# Altium schematic symbol library Exeger_schematic_library.SchLib: 86 symbols
Pins are listed as number, name and electrical type; pins without a type are passive.

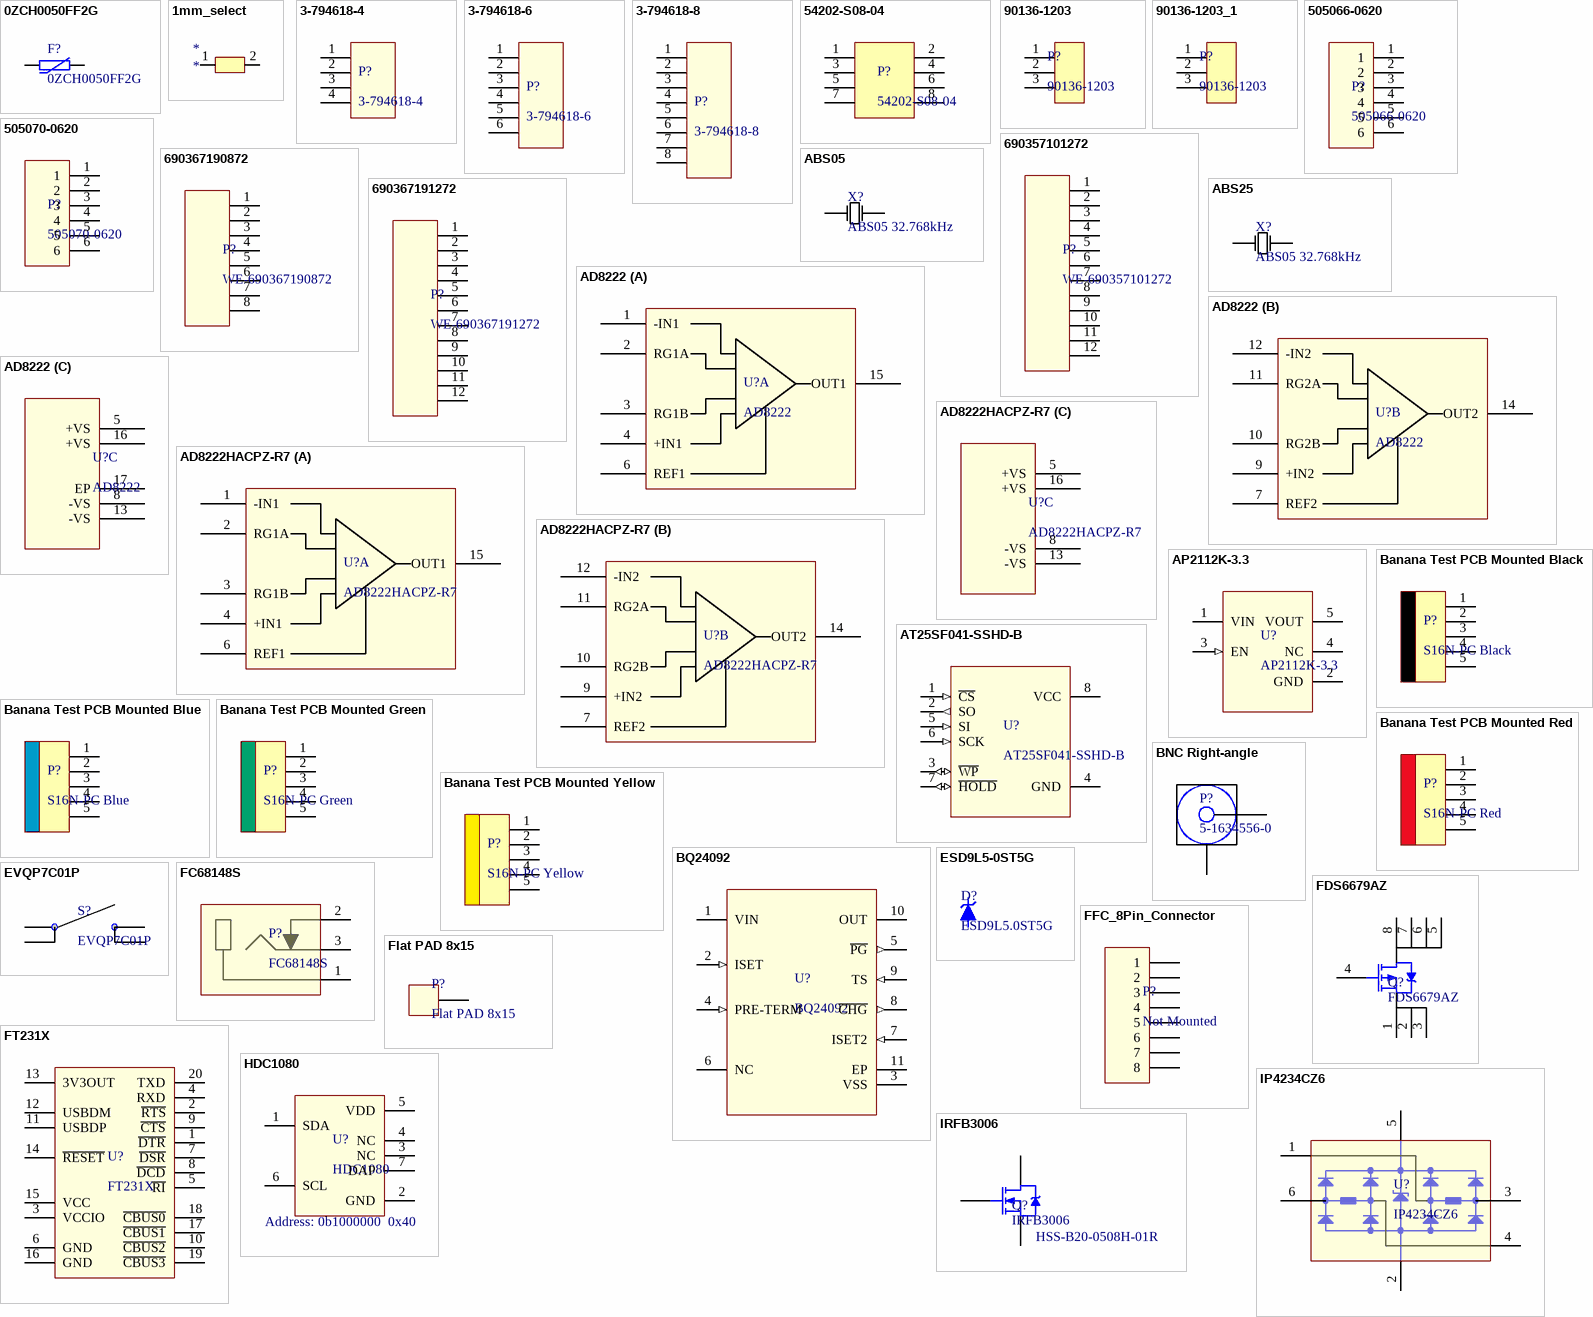
[diagram p0: symbols 0ZCH0050FF2G to IRFB3006]

## 0ZCH0050FF2G
designator F?
PTC
footprint PTC_1210 (Chip Capacitor, 2-Leads, Body 3,22x2,57mm, IPC Medium Density)
pins: 1, 2

## 1mm_select
designator *
footprint 1mm_Select
pins: 1, 2

## 3-794618-4
designator P?
Molex 3-794618-4
footprint 3-794618-4 (Molex 3-794618-4)
pins: 1, 2, 3, 4

## 3-794618-6
designator P?
Molex 3-794618-6
footprint 3-794618-6 (Molex 3-794618-6)
pins: 1, 2, 3, 4, 5, 6

## 3-794618-8
designator P?
Molex 3-794618-8
footprint 3-794618-8 (Molex 3-794618-8)
pins: 1, 2, 3, 4, 5, 6, 7, 8

## 54202-S08-04
designator P?
Header 2x4
footprint 54202-S08-04 (Header 2x4)
pins: 1, 2, 3, 4, 5, 6, 7, 8

## 90136-1203
designator P?
Header 1x3
footprint 90136-1203 (Header 1x3)
pins: 1, 2, 3

## 90136-1203_1
designator P?, comment 90136-1203
Header 1x3
footprint 90136-1203 (Header 1x3)
pins: 1, 2, 3

## 505066-0620
designator P?
Molex SlimStack Armor 505066
footprint 505066-0620 (Molex 505066-0620)
pins: 1, 2, 3, 4, 5, 6

## 505070-0620
designator P?
Molex SlimStack Armor 505070
footprint 505070-0620 (Molex 505070-0620)
pins: 1, 2, 3, 4, 5, 6

## 690357101272
designator P?, comment WE-690357101272
footprint 690357101272 (MiniModule Connectors, PCB Type, Male, THT, Vertical, 12p)
pins: 1, 2, 3, 4, 5, 6, 7, 8, 9, 10, 11, 12

## 690367190872
designator P?, comment WE-690367190872
footprint 690367190872 (WE-690367190872)
pins: 1, 2, 3, 4, 5, 6, 7, 8

## 690367191272
designator P?, comment WE-690367191272
footprint 690367191272 (WE-690367191272)
pins: 1, 2, 3, 4, 5, 6, 7, 8, 9, 10, 11, 12

## ABS05
designator X?, comment ABS05 32.768kHz
footprint ABS05
pins: 1, 2

## ABS25
designator X?, comment ABS05 32.768kHz
ABS25 32.768kHz
footprint ABS25
pins: 1, 4

## AD8222
designator U?
footprint QFN65P400X400X80_HS-17 (QFN, 16-Leads, Body 4,00x4,00mm, Pitch 0,65mm, Thermal Pad 2,50x2,50mm, IPC Medium Density)
part A pins: 1 -IN1, 2 RG1A, 3 RG1B, 4 +IN1, 6 REF1, 15 OUT1
part B pins: 7 REF2, 9 +IN2, 10 RG2B, 11 RG2A, 12 -IN2, 14 OUT2
part C pins: 5 +VS, 8 -VS, 13 -VS, 16 +VS, 17 EP

## AD8222HACPZ-R7
designator U?
footprint QFN65P4x4_line (QFN, 16-Leads, Body 4,00x4,00mm, Pitch 0,65mm, IPC Medium Density)
part A pins: 1 -IN1, 2 RG1A, 3 RG1B, 4 +IN1, 6 REF1, 15 OUT1
part B pins: 7 REF2, 9 +IN2, 10 RG2B, 11 RG2A, 12 -IN2, 14 OUT2
part C pins: 5 +VS, 8 -VS, 13 -VS, 16 +VS

## AP2112K-3.3
designator U?
LDO-3V3
footprint SOT23-5 (SOT23, 5-Leads, Body 2,90x2,45mm, Pitch 0,95mm, IPC Medium Density)
pins: 1 VIN (power), 2 GND (power), 3 EN (in), 4 NC, 5 VOUT (power)

## AT25SF041-SSHD-B
designator U?
footprint SOIC127P600X160-8N (SOIC, 8-Leads, Body 4,92x3,90mm, Pitch 1,27mm, IPC Medium Density)
pins: 1 ~{CS} (in), 2 SO (out), 3 ~{WP} (io), 4 GND (power), 5 SI (in), 6 SCK (in), 7 ~{HOLD} (io), 8 VCC (power)

## Banana Test PCB Mounted Black
designator P?, comment S16N-PC Black
footprint S16N-PC BLACK
pins: 1, 2, 3, 4, 5

## Banana Test PCB Mounted Blue
designator P?, comment S16N-PC Blue
footprint S16N-PC BLUE
pins: 1, 2, 3, 4, 5

## Banana Test PCB Mounted Green
designator P?, comment S16N-PC Green
footprint S16N-PC GREEN
pins: 1, 2, 3, 4, 5

## Banana Test PCB Mounted Red
designator P?, comment S16N-PC Red
footprint S16N-PC RED
pins: 1, 2, 3, 4, 5

## Banana Test PCB Mounted Yellow
designator P?, comment S16N-PC Yellow
footprint S16N-PC YELLOW
pins: 1, 2, 3, 4, 5

## BNC Right-angle
designator P?, comment 5-1634556-0
SMA Straight Jack
footprint 5-1634556-0 (BNC-5-1634556-0)
pins: 1, 2, 3, 4, 5

## BQ24092
designator U?
Battery Charger
footprint TSSOP50P490X110_HS-11N (TSSOP, 10-Leads, Body 3,00x3,00mm, Pitch 0,50mm, Thermal Pad 1,88x1,57mm, IPC Medium Density)
pins: 1 VIN (power), 2 ISET (in), 3 VSS (power), 4 PRE-TERM (in), 5 ~{PG} (out), 6 NC, 7 ISET2 (in), 8 ~{CHG} (out), 9 TS (in), 10 OUT (power), 11 EP (power)

## ESD9L5-0ST5G
designator D?, comment ESD9L5.0ST5G
TVS_ESD9L5-0ST5G
footprint SODFL100X40-2N (SODFL, 2-Leads, Body 0,60x1,00mm, IPC Medium Density)
pins: 1, 2

## EVQP7C01P
designator S?
EVQP7C01P Switch
footprint EVQP7C (Switch)
pins: 1, 2, 3, 4

## FC68148S
designator P?
footprint FC68148S (FC68148S 2.1mm jack barrel)
pins: 1, 2, 3, 4

## FDS6679AZ
designator Q?
Transistor, FET
footprint SOIC127P600X175-8N (SOIC, 8-Leads, Body 4,92x3,90mm, Pitch 1,27mm, IPC Medium Density)
pins: 1 S, 2 S, 3 S, 4 G, 5 D, 6 D, 7 D, 8 D

## FFC_8Pin_Connector
designator P?, comment Not Mounted
footprint FFC_edge_connector
pins: 1, 2, 3, 4, 5, 6, 7, 8

## Flat PAD 8x15
designator P?
footprint Flat PAD 8x15
pins: 1

## FT231X
designator U?
FT231X_USB-UART
footprint TSOP64P600X160-20N (TSOP, 20-Leads, Body 8,66x3,91mm, Pitch 0,64mm, IPC Medium Density)
pins: 1 ~{DTR}, 2 ~{RTS}, 3 VCCIO, 4 RXD, 5 ~{RI}, 6 GND, 7 ~{DSR}, 8 ~{DCD}, 9 ~{CTS}, 10 ~{CBUS2}, 11 USBDP, 12 USBDM, 13 3V3OUT, 14 ~{RESET}, 15 VCC, 16 GND, 17 ~{CBUS1}, 18 ~{CBUS0}, 19 ~{CBUS3}, 20 TXD

## HDC1080
designator U?  Address: 0b1000000  0x40
footprint PSON95P300X80_HS-7N (PSON, 6-Leads, Body 3,00x3,00mm, Pitch 0,95mm, Thermal Pad 2,40x1,50mm, IPC Medium Density)
footprint PSON95P300X80_HS (PSON, 6-Leads, Body 3,00x3,00mm, Pitch 0,95mm, Thermal Pad 2,40x1,50mm, IPC Medium Density)
pins: 1 SDA, 2 GND, 3 NC, 4 NC, 5 VDD, 6 SCL, 7 DAP

## IP4234CZ6
designator U?
USB Line Protection
footprint TSOP95P280X110_HS-7N (TSOP, 6-Leads, Body 2,90x1,50mm, Pitch 0,95mm, Thermal Pad 1,88x1,10mm, IPC Medium Density)
pins: 1 CH1_A, 2 GND (power), 3 CH1_B, 4 CH2_A, 5 VCC (power), 6 CH2_B

## IRFB3006
designator Q?  Heat Sink Part number: HSS-B20-0508H-01R
Transistor, FET
footprint TO-220 with HS
pins: 1 G, 2 D, 3 S

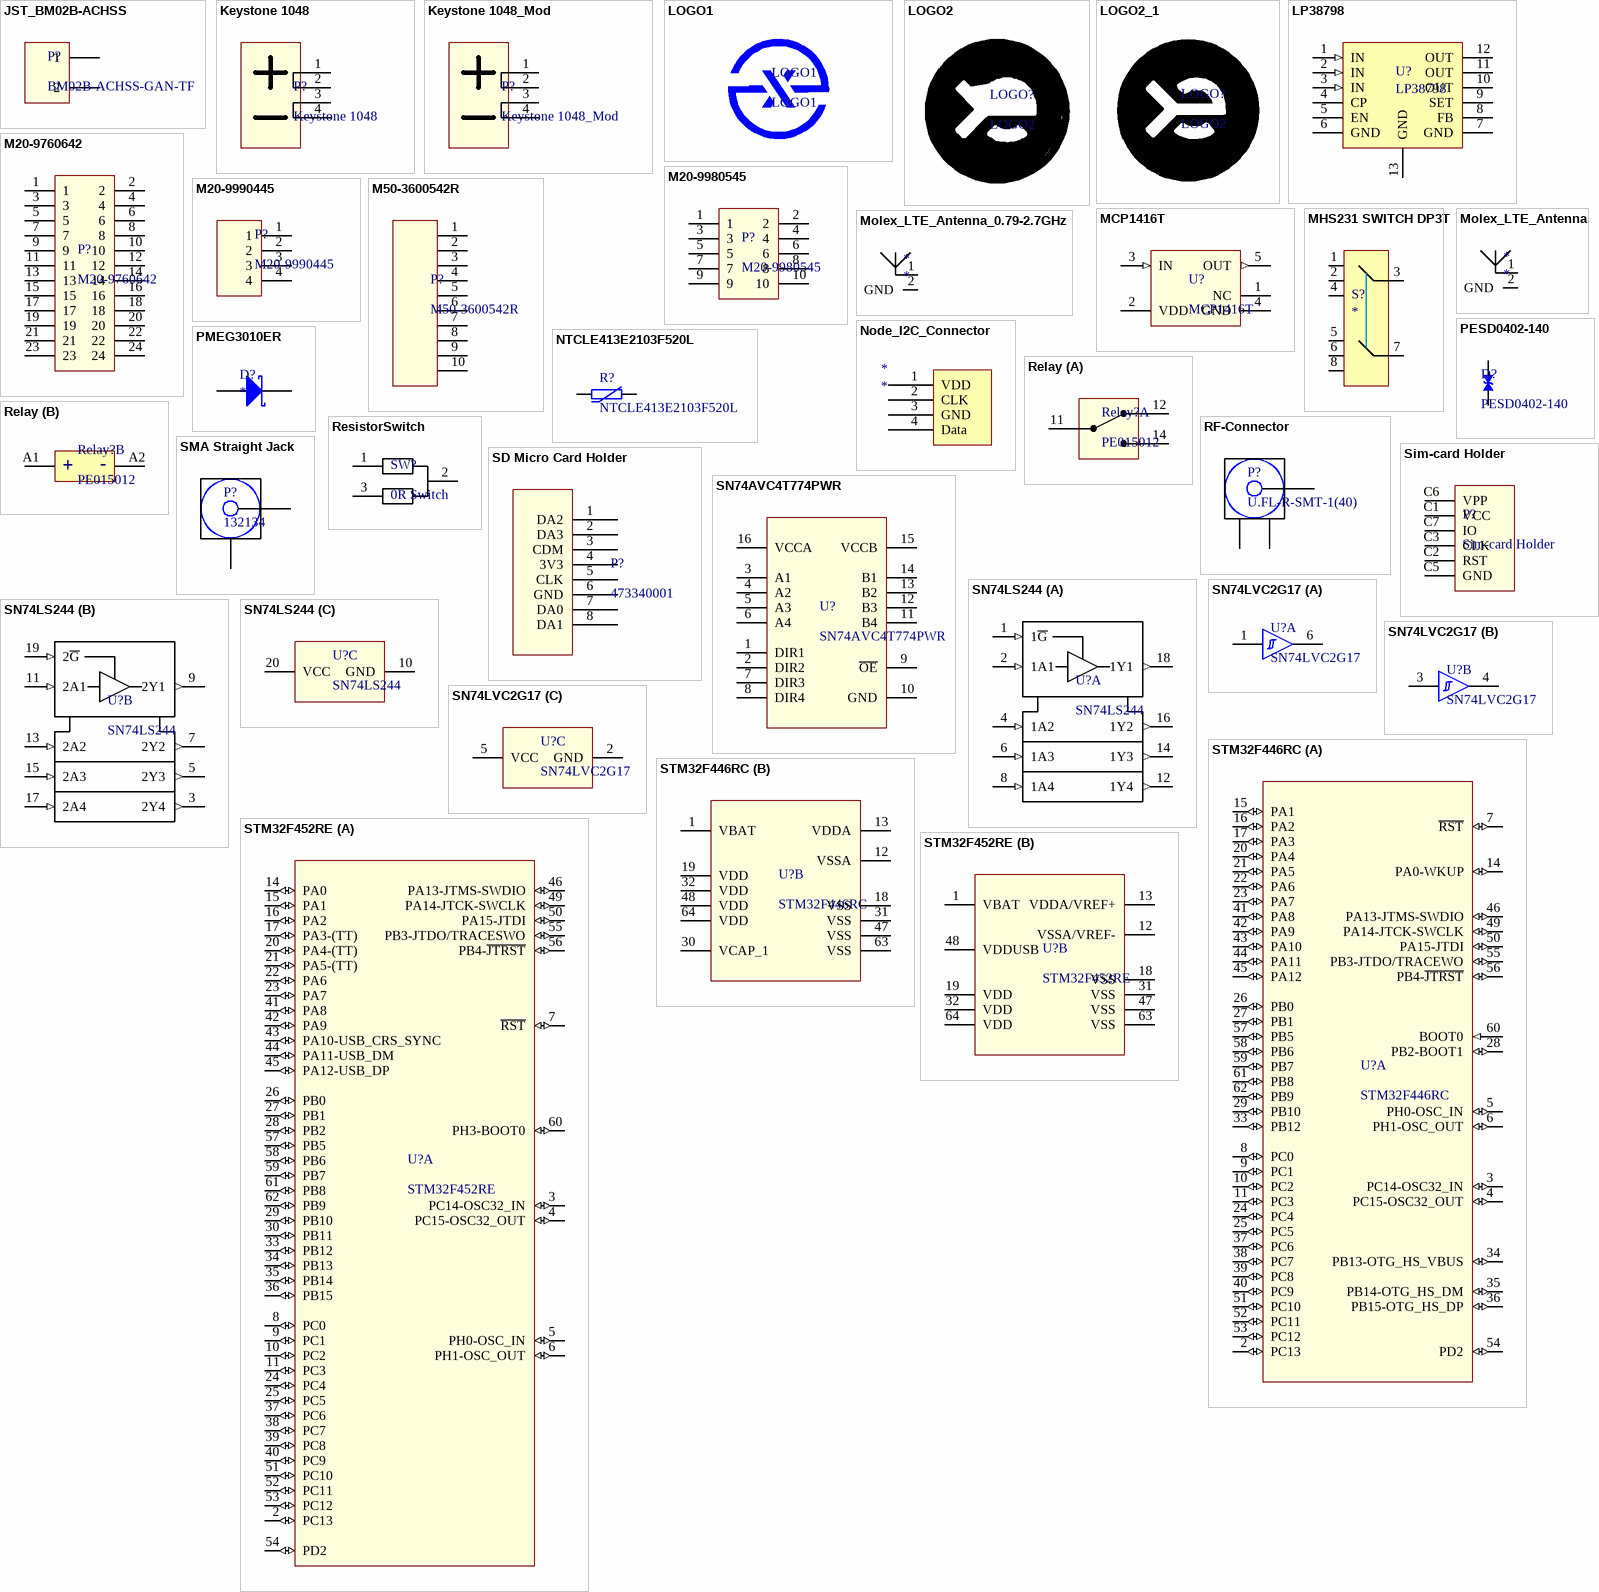
[diagram p1: symbols JST_BM02B-ACHSS to STM32F452RE]

## JST_BM02B-ACHSS
designator P?, comment BM02B-ACHSS-GAN-TF
JST_BM02B-ACHSS
footprint JST_BM02B-ACHSS
pins: 1, 2

## Keystone 1048
designator P?
footprint keystone 1048 (battery holder)
pins: 1, 2, 3, 4

## Keystone 1048_Mod
designator P?
Keystone 1048
footprint keystone 1048-MOD (battery holder)
pins: 1, 2, 3, 4

## LOGO1
designator LOGO1
footprint EXEGER (LOGO1)

## LOGO2
designator LOGO?
footprint LOGO2

## LOGO2_1
designator LOGO?, comment LOGO2
footprint LOGO2

## LP38798
designator U?
LP38798 800-mAUltra-Low-Noise; Datasheet: http://www.ti.com/lit/ds/symlink/lp38798.pdf
footprint WSON12 (LP39798)
pins: 1 IN (in), 2 IN (in), 3 IN (in), 4 CP, 5 EN, 6 GND (power), 7 GND (power), 8 FB, 9 SET, 10 OUT, 11 OUT (power), 12 OUT (power), 13 GND (power)

## M20-9760642
designator P?
Header 2x12
footprint Header 2x12 (Header 2x12x2.54)
pins: 1, 2, 3, 4, 5, 6, 7, 8, 9, 10, 11, 12, 13, 14, 15, 16, 17, 18, 19, 20, 21, 22, 23, 24

## M20-9980545
designator P?
Header 2x5
footprint Header 2x5 (Header 2x5x2.54)
pins: 1, 2, 3, 4, 5, 6, 7, 8, 9, 10

## M20-9990445
designator P?
Header 1x4
footprint Header 1x4 (Header 1x4x2.54)
pins: 1, 2, 3, 4

## M50-3600542R
designator P?
Header 2x5-1.27mm
footprint M50-3600542R (Header 2x5-1.27mm)
pins: 1, 2, 3, 4, 5, 6, 7, 8, 9, 10

## MCP1416T
designator U?
MCP1416T_MOSFET_driver
footprint SOT23-5 (SOT23, 5-Leads, Body 2,90x2,80mm, Pitch 0,95mm, IPC Medium Density)
pins: 1 NC, 2 VDD (power), 3 IN (in), 4 GND (power), 5 OUT (out)

## MHS231 SWITCH DP3T
designator S?
DigiKey: 563-1576-ND
footprint MHS231 (MHS231 Switch DP3T)
pins: 1, 2, 3, 4, 5, 6, 7, 8

## Molex_LTE_Antenna
designator *
Molex_ 2047740001; Part Number: 2047740001; Datasheet: https://www.digikey.com/product-detail/en/molex/2047740001/WM17023DKR-ND/7798376
footprint 2047740001 (Chip RF Antenna 790MHz - 2.7GHz)
pins: 1, 2 GND

## Molex_LTE_Antenna_0.79-2.7GHz
designator *
Molex_1462000001; Part Number: 1462000001; Datasheet: https://www.molex.com/molex/products/datasheet.jsp?part=active/1462000001_ANTENNAS.xml&channel=Products&Lang=en-US
footprint 1462000001 698MHz-2.7GHz (Chip RF Antenna 790MHz - 2.7GHz)
pins: 1, 2 GND

## Node_I2C_Connector
designator *
footprint Node_I2C_Connector (Node I2C 2mm pitch Connector)
pins: 1 VDD, 2 CLK, 3 GND, 4 Data

## NTCLE413E2103F520L
designator R?
NTC Thermistor
footprint NTC_1
pins: 1, 2

## PESD0402-140
designator D?
ESD Protection
footprint RES0402 (Chip Resistor, 2-Leads, Body 1,05x0,54mm, IPC Medium Density)
pins: 1, 2

## PMEG3010ER
designator D?
Schottky 1A 360mV; Farnell: 1907686
footprint SOD123 (SODFL, 2-Leads, Body 1,60x3,71mm, IPC Medium Density)
pins: 1 K, 2 A

## Relay
designator Relay?, comment PE015012
footprint PE015012 (Relay)
part A pins: 11, 12, 14
part B pins: A1 (power), A2 (power)
part B text: +; -

## ResistorSwitch
designator SW?, comment 0R Switch
footprint RES0603_3Pads-hand-only (Chip Resistor, 2-Leads, Body 1,60x0,72mm, IPC Medium Density)
pins: 1, 2, 3

## RF-Connector
designator P?, comment U.FL-R-SMT-1(40)
RF-Connector
footprint U.FL-R-SMT-1(40) (RF-Connector)
pins: 1, 2, 3

## SD Micro Card Holder
designator P?, comment 473340001
SD Micro Card Holder
footprint 473340001 (sd card holder)
pins: 1 DA2, 2 DA3, 3 CDM, 4 3V3 (power), 5 CLK, 6 GND (power), 7 DA0, 8 DA1

## Sim-card Holder
designator P?
788000001_Molex
footprint Sim-card Holder (Molex 788000001)
pins: C1 VCC, C2 RST, C3 CLK, C5 GND, C6 VPP, C7 IO

## SMA Straight Jack
designator P?, comment 132134
SMA Straight Jack
footprint SMA_Straight_Jack
pins: 1, 2, 3, 4, 5

## SN74AVC4T774PWR
designator U?
Buffer
footprint TSOP65P640X120-16N (TSOP, 16-Leads, Body 5,00x4,40mm, Pitch 0,65mm, IPC Medium Density)
pins: 1 DIR1, 2 DIR2, 3 A1, 4 A2, 5 A3, 6 A4, 7 DIR3, 8 DIR4, 9 ~{OE}, 10 GND, 11 B4, 12 B3, 13 B2, 14 B1, 15 VCCB, 16 VCCA

## SN74LS244
designator U?
SN74LS244-Octal_Buffer
footprint SOIC20_wide_hand (SOIC, 20-Leads, Body 12,80x7,50mm, Pitch 1,27mm, IPC Medium Density)
part A pins: 1 1~{G} (in), 2 1A1 (in), 4 1A2 (in), 6 1A3 (in), 8 1A4 (in), 12 1Y4 (out), 14 1Y3 (out), 16 1Y2 (out), 18 1Y1 (out)
part B pins: 3 2Y4 (out), 5 2Y3 (out), 7 2Y2 (out), 9 2Y1 (out), 11 2A1 (in), 13 2A2 (in), 15 2A3 (in), 17 2A4 (in), 19 2~{G} (in)
part C pins: 10 GND (power), 20 VCC (power)

## SN74LVC2G17
designator U?
schmitt_buffer_SN74LVC2G17
footprint SOT23-6 (SOT23, 6-Leads, Body 2,90x2,80mm, Pitch 0,95mm, IPC Medium Density)
part A pins: 1 1A, 6 1Y
part B pins: 3 2A, 4 2Y
part C pins: 2 GND (power), 5 VCC (power)

## STM32F446RC
designator U?
footprint TSQFP50P12x12_hand (TSQFP, 64-Leads, Body 10,00x10,00mm, Pitch 0,50mm, IPC Medium Density)
part A pins: 2 PC13 (io), 3 PC14-OSC32_IN (io), 4 PC15-OSC32_OUT (io), 5 PH0-OSC_IN (io), 6 PH1-OSC_OUT (io), 7 ~{RST} (io), 8 PC0 (io), 9 PC1 (io), 10 PC2 (io), 11 PC3 (io), 14 PA0-WKUP (io), 15 PA1 (io), 16 PA2 (io), 17 PA3 (io), 20 PA4 (io), 21 PA5 (io), 22 PA6 (io), 23 PA7 (io), 24 PC4 (io), 25 PC5 (io), 26 PB0 (io), 27 PB1 (io), 28 PB2-BOOT1 (io), 29 PB10 (io), 33 PB12 (io), 34 PB13-OTG_HS_VBUS (io), 35 PB14-OTG_HS_DM (io), 36 PB15-OTG_HS_DP (io), 37 PC6 (io), 38 PC7 (io), 39 PC8 (io), 40 PC9 (io), 41 PA8 (io), 42 PA9 (io), 43 PA10 (io), 44 PA11 (io), 45 PA12 (io), 46 PA13-JTMS-SWDIO (io), 49 PA14-JTCK-SWCLK (io), 50 PA15-JTDI (io), 51 PC10 (io), 52 PC11 (io), 53 PC12 (io), 54 PD2 (io), 55 PB3-JTDO/TRACEWO (io), 56 PB4-~{JTRST} (io), 57 PB5 (io), 58 PB6 (io), 59 PB7 (io), 60 BOOT0 (in), 61 PB8 (io), 62 PB9 (io)
part B pins: 1 VBAT (power), 12 VSSA (power), 13 VDDA, 18 VSS (power), 19 VDD (power), 30 VCAP_1 (power), 31 VSS (power), 32 VDD (power), 47 VSS (power), 48 VDD (power), 63 VSS (power), 64 VDD (power)

## STM32F452RE
designator U?
footprint TSQFP50P12x12_hand (TSQFP, 64-Leads, Body 10,00x10,00mm, Pitch 0,50mm, IPC Medium Density)
part A pins: 2 PC13 (io), 3 PC14-OSC32_IN (io), 4 PC15-OSC32_OUT (io), 5 PH0-OSC_IN (io), 6 PH1-OSC_OUT (io), 7 ~{RST} (io), 8 PC0 (io), 9 PC1 (io), 10 PC2 (io), 11 PC3 (io), 14 PA0 (io), 15 PA1 (io), 16 PA2 (io), 17 PA3-(TT) (io), 20 PA4-(TT) (io), 21 PA5-(TT) (io), 22 PA6 (io), 23 PA7 (io), 24 PC4 (io), 25 PC5 (io), 26 PB0 (io), 27 PB1 (io), 28 PB2 (io), 29 PB10 (io), 30 PB11 (io), 33 PB12 (io), 34 PB13 (io), 35 PB14 (io), 36 PB15 (io), 37 PC6 (io), 38 PC7 (io), 39 PC8 (io), 40 PC9 (io), 41 PA8 (io), 42 PA9 (io), 43 PA10-USB_CRS_SYNC (io), 44 PA11-USB_DM (io), 45 PA12-USB_DP (io), 46 PA13-JTMS-SWDIO (io), 49 PA14-JTCK-SWCLK (io), 50 PA15-JTDI (io), 51 PC10 (io), 52 PC11 (io), 53 PC12 (io), 54 PD2 (io), 55 PB3-JTDO/TRACESWO (io), 56 PB4-~{JTRST} (io), 57 PB5 (io), 58 PB6 (io), 59 PB7 (io), 60 PH3-BOOT0 (io), 61 PB8 (io), 62 PB9 (io)
part B pins: 1 VBAT (power), 12 VSSA/VREF- (power), 13 VDDA/VREF+, 18 VSS (power), 19 VDD (power), 31 VSS (power), 32 VDD (power), 47 VSS (power), 48 VDDUSB (power), 63 VSS (power), 64 VDD (power)

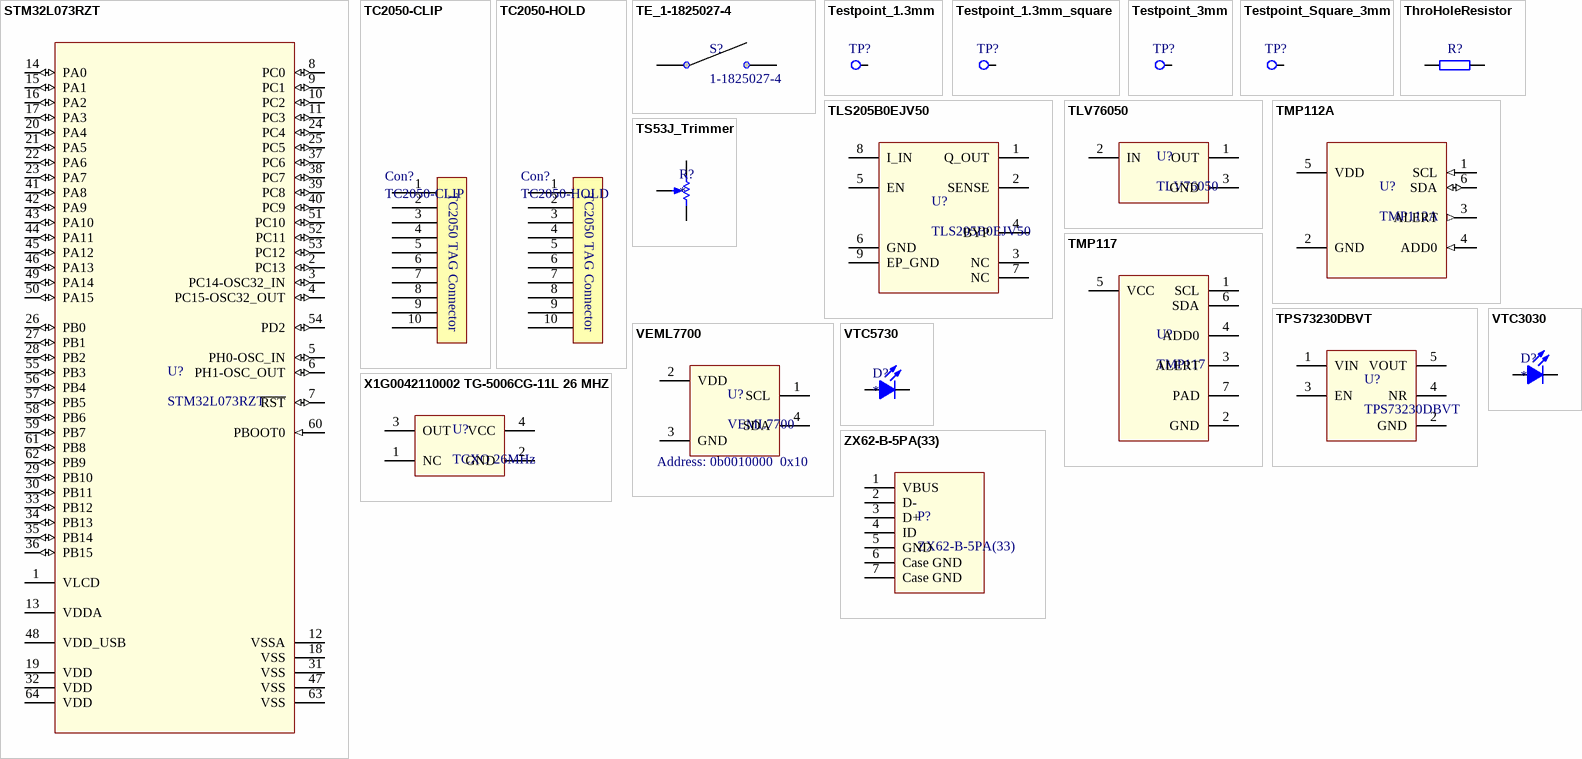
[diagram p2: symbols STM32L073RZT to ZX62-B-5PA(33)]

## STM32L073RZT
designator U?
footprint STM-LQFP64_V (Thin QFP, 64-Leads, Body 10x10mm, Pitch 0.5mm, ST Recommended)
pins: 1 VLCD (power), 2 PC13 (io), 3 PC14-OSC32_IN (io), 4 PC15-OSC32_OUT (io), 5 PH0-OSC_IN (io), 6 PH1-OSC_OUT (io), 7 ~{RST} (io), 8 PC0 (io), 9 PC1 (io), 10 PC2 (io), 11 PC3 (io), 12 VSSA (power), 13 VDDA (power), 14 PA0 (io), 15 PA1 (io), 16 PA2 (io), 17 PA3 (io), 18 VSS (power), 19 VDD (power), 20 PA4 (io), 21 PA5 (io), 22 PA6 (io), 23 PA7 (io), 24 PC4 (io), 25 PC5 (io), 26 PB0 (io), 27 PB1 (io), 28 PB2 (io), 29 PB10 (io), 30 PB11 (io), 31 VSS (power), 32 VDD (power), 33 PB12 (io), 34 PB13 (io), 35 PB14 (io), 36 PB15 (io), 37 PC6 (io), 38 PC7 (io), 39 PC8 (io), 40 PC9 (io), 41 PA8 (io), 42 PA9 (io), 43 PA10 (io), 44 PA11 (io), 45 PA12 (io), 46 PA13 (io), 47 VSS (power), 48 VDD_USB (power), 49 PA14 (io), 50 PA15 (io), 51 PC10 (io), 52 PC11 (io), 53 PC12 (io), 54 PD2 (io), 55 PB3 (io), 56 PB4 (io), 57 PB5 (io), 58 PB6 (io), 59 PB7 (io), 60 PBOOT0 (in), 61 PB8 (io), 62 PB9 (io), 63 VSS (power), 64 VDD (power)

## TC2050-CLIP
designator Con?
Datasheet: http://www.tag-connect.com/Materials/TC2050-IDC-430-NL%20Datasheet.pdf
footprint TC2050-CLIP
pins: 1, 2, 3, 4, 5, 6, 7, 8, 9, 10
text: TC2050 TAG Connector

## TC2050-HOLD
designator Con?
Datasheet: http://www.tag-connect.com/Materials/TC2050-IDC%20Datasheet.pdf
footprint TC2050-HOLD
pins: 1, 2, 3, 4, 5, 6, 7, 8, 9, 10
text: TC2050 TAG Connector

## TE_1-1825027-4
designator S?, comment 1-1825027-4
TE_1-1825027-4 Switch
footprint TE_1-1825027-4 (Push Button)
pins: 1, 2

## Testpoint_1.3mm
designator TP?  (value not drawn)
Testpoint
footprint TestPad_1.3mm
pins: 1

## Testpoint_1.3mm_square
designator TP?  (value not drawn)
Testpoint
footprint TestPad_1.3mm_Square
pins: 1

## Testpoint_3mm
designator TP?  (value not drawn)
Testpoint
footprint TestPad_3mm
pins: 1

## Testpoint_Square_3mm
designator TP?  (value not drawn)
Testpoint
footprint TestPad_3mm_square
pins: 1

## ThroHoleResistor
designator R?  (value not drawn)
footprint ThroHoleResistor
pins: 1, 2

## TLS205B0EJV50
designator U?
footprint SOIC08_EP_Hand (SOIC, 8-Leads, Body 4,92x3,90mm, Pitch 1,27mm, Thermal Pad 3,20x2,85mm, IPC Medium Density)
pins: 1 Q_OUT (power), 2 SENSE, 3 NC, 4 BYP, 5 EN, 6 GND, 7 NC, 8 I_IN, 9 EP_GND

## TLV76050
designator U?
LDO
footprint SOT23 (SOT23, 3-Leads, Body 2,90x2,45mm, Pitch 0,95mm, IPC Medium Density)
pins: 1 OUT, 2 IN, 3 GND

## TMP112A
designator U?
Temp_Sensor
footprint SOTFL50P160X60-6N (SOTFL, 6-Leads, Body 1,60x1,60mm, Pitch 0,50mm, IPC Medium Density)
pins: 1 SCL (in), 2 GND (power), 3 ALERT (out), 4 ADD0 (in), 5 VDD (power), 6 SDA (io)

## TMP117
designator U?
footprint SON65P200X80_HS-7N (SON, 6-Leads, Body 2,00x2,00mm, Pitch 0,65mm, Thermal Pad 1,60x0,89mm, IPC Medium Density)
pins: 1 SCL, 2 GND (power), 3 ALERT, 4 ADD0, 5 VCC (power), 6 SDA, 7 PAD

## TPS73230DBVT
designator U?
footprint SOT23-5 (SOT23, 5-Leads, Body 2,90x2,80mm, Pitch 0,95mm, IPC Medium Density)
pins: 1 VIN, 2 GND, 3 EN, 4 NR, 5 VOUT

## TS53J_Trimmer
designator R?
footprint TS53YJ (Trimmers Single-Turn)
pins: 1 TOP, 2 TAP, 3 BOT

## VEML7700
designator U?  Address: 0b0010000  0x10
VEML7700_light_sensor
footprint VEML7700
pins: 1 SCL, 2 VDD, 3 GND, 4 SDA

## VTC3030
designator D?
VTC3030; Ordernumber: YJ-VTC-3030M-G02
footprint LED_VTC-3030M (VTC-3030M)
pins: 1 K, 2 A

## VTC5730
designator D?
VTC5730; Ordernumber: YJ-VTC-5730-G01-D50
footprint LED_VTC-5730 (VTC-5730)
pins: 1 K, 2 A

## X1G0042110002 TG-5006CG-11L 26 MHZ
designator U?, comment TCXO 26MHz
X1G0042110002 TG-5006CG-11L 26 MHZ
footprint TG-5006CG (TCXO)
pins: 1 NC, 2 GND, 3 OUT, 4 VCC

## ZX62-B-5PA(33)
designator P?
USB Connector
footprint ZX62-B-5PA(33) (USB Micro B)
pins: 1 VBUS (power), 2 D-, 3 D+, 4 ID, 5 GND (power), 6 Case GND (power), 7 Case GND